# EAGLE library part 1-84952-5 (library CONNECTORs)
15 Position FPC Connector Contacts, Bottom 0.039" (1.00mm) Surface Mount, Right Angle
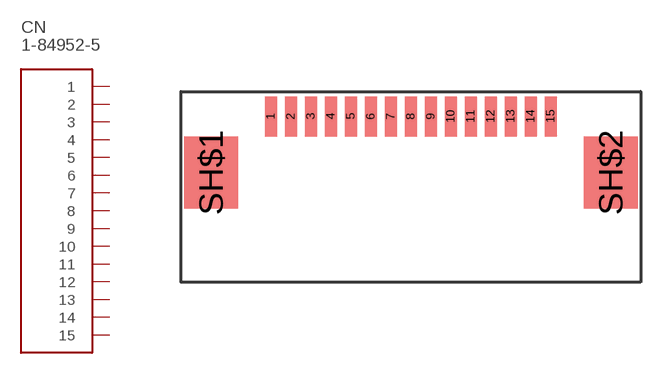
[diagram p46: symbol with the pads of 1-84952-5; footprint 1-84952-5]

Designator prefix CN

## 1-84952-5. (DIGIKEY: A101391CT-ND; HEIGHT: 2.6; PRICE_PER: 1.03; VALUE: 15PIN 1MM)  [1-84952-5]
1  1
2  2
3  3
4  4
5  5
6  6
7  7
8  8
9  9
10  10
11  11
12  12
13  13
14  14
15  15

## Footprint 1-84952-5 (pad centres in mm)
smd 0.6 x 2: 1 -7,0; 2 -6,0; 3 -5,0; 4 -4,0; 5 -3,0; 6 -2,0; 7 -1,0; 8 0,0; 9 1,0; 10 2,0; 11 3,0; 12 4,0; 13 5,0; 14 6,0; 15 7,0
smd 2.7 x 3.6: SH$1 -10,-2.8; SH$2 10,-2.8